# Altium integrated library murata-filter.IntLib: 5 symbols
Pins are listed as number, name and electrical type; pins without a type are passive.

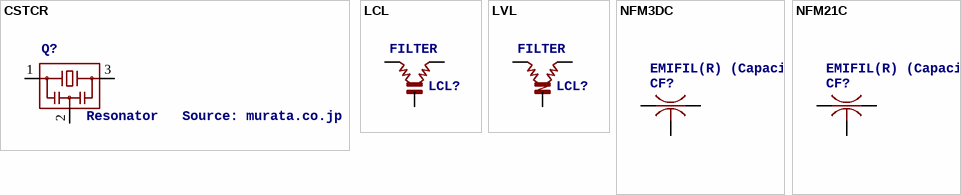
[diagram p0: symbols CSTCR to NFM21C]

## CSTCR
designator Q?, comment Resonator   Source: murata.co.jp
MPN: CSTCR6M00G53-R0; OC_FARNELL: 1170434; OC_NEWARK: 25M8759
footprint CSTCR6M
pins: 1, 2, 3

## LCL
designator LCL?, comment FILTER
MPN: LCL; OC_FARNELL: 106331; OC_NEWARK: 06WX8509
footprint LCL
pins: 0 GND (power), 1, 2

## LVL
designator LCL?, comment FILTER
OC_FARNELL: unknown; OC_NEWARK: unknown
footprint LCL
pins: 0 GND (power), 1, 2

## NFM3DC
designator CF?, comment EMIFIL(R) (Capacitor type) Single Circuit Type for Signal Lines   Source: http://search.murata.co.jp/Ceramy/image/img/PDF/ENG/L0111S0109NFM3DC.pdf
MPN: NFM3DCC470U1H3L; MF: FARNELL; OC_FARNELL: 9528288; OC_NEWARK: 38K6023
footprint NFM3DC
pins: 1, 2@1, 2@2, 3

## NFM21C
designator CF?, comment EMIFIL(R) (Capacitor type) Single Circuit Type for Signal Lines   Source: http://search.murata.co.jp/Ceramy/image/img/PDF/ENG/L0111S0109NFM3DC.pdf
MPN: NFM21CC102R1H3D; OC_FARNELL: 1828795; OC_NEWARK: 84R0165
footprint NFM21C
pins: 1, 2@1, 2@2, 3